# EAGLE library part TASTER_3_SCHLIESSER+3_OEFFNER (library e-schalter)
Taster, 3 Schließer, 3 Öffner
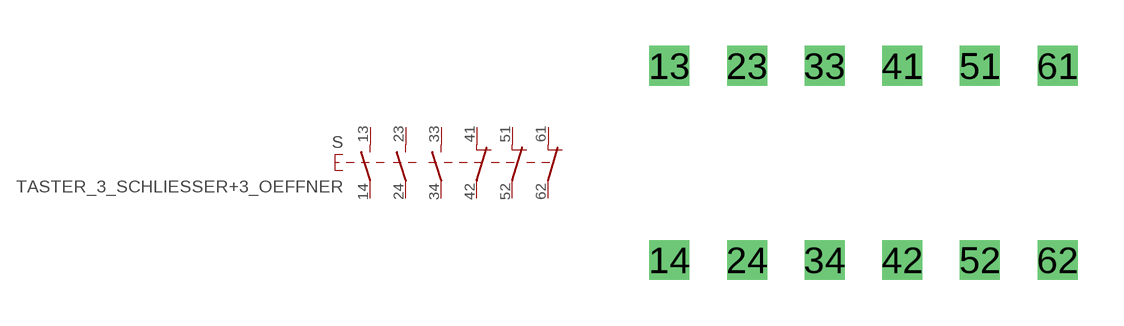
[diagram p9: symbol with the pads of DREHSCHALTER_3_SCHLIESSER+3_OEFFNER; footprint DREHSCHALTER_3_SCHLIESSER+3_OEFFNER]

Designator prefix S

## TASTER_3_SCHLIESSER+3_OEFFNER  [DREHSCHALTER_3_SCHLIESSER+3_OEFFNER]
13  13  pas
14  14  pas
23  23  pas
24  24  pas
33  33  pas
34  34  pas
41  41  pas
42  42  pas
51  51  pas
52  52  pas
61  61  pas
62  62  pas

## Footprint DREHSCHALTER_3_SCHLIESSER+3_OEFFNER (pad centres in mm)
Dummy
drill 0.8 square: 13 -6.35,3.175; 14 -6.35,-3.175; 23 -3.81,3.175; 24 -3.81,-3.175; 33 -1.27,3.175; 34 -1.27,-3.175; 41 1.27,3.175; 42 1.27,-3.175; 51 3.81,3.175; 52 3.81,-3.175; 61 6.35,3.175; 62 6.35,-3.175